# Altium footprint library WE-STST.PcbLib: 9 footprints
Each footprint in its own frame and in the unit in brackets; x right, y up, seen from the top. Pads: shape width x height; smd on the part's side, far side on the other; paste and mask are expansions set on the pad; w line width, h text height; cw(c..) or ccw(c..) is an arc to the next point about the centre after c.
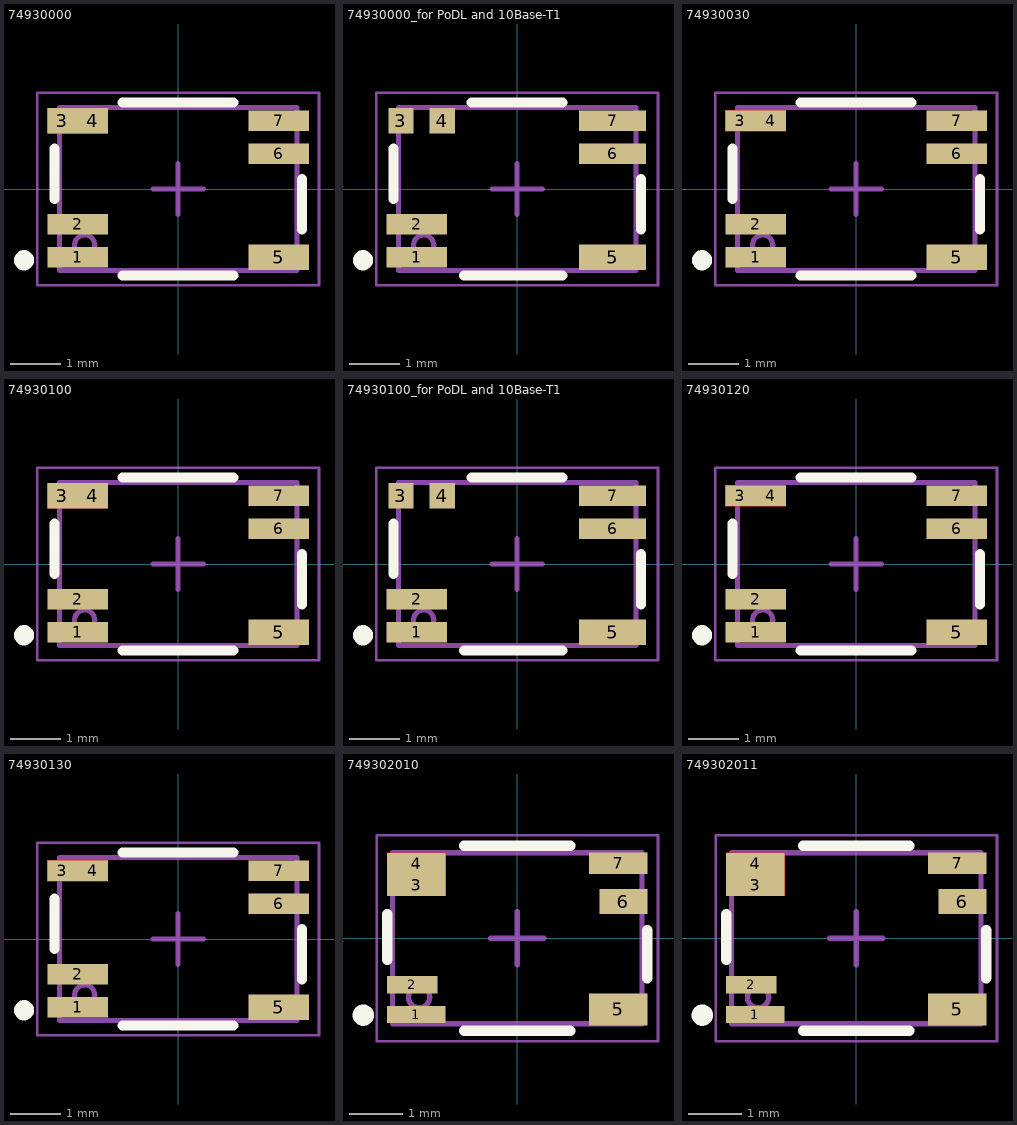
[diagram p0: the footprints below, top view; thin cyan lines are the x and y axes]

## 74930000 [mm] "Super Tiny Signal Transformer, body 4.7x3.22mm"
height 2.9
pads (7):
  rect 1.2x0.41 smd paste-2539.97: 1(-1.99,-1.35) 2(-1.99,-0.7) 6(1.99,0.7) 7(1.99,1.35)
  rect 0.6x0.5 smd paste-2539.97: 3(-2.29,1.35) 4(-1.69,1.35)
  rect 1.2x0.5 smd paste-2539.97: 5(1.99,-1.35)
Top Layer:
  region: -1.39,1.6 -2.59,1.6 -2.59,1.1 -1.39,1.1
Top Overlay:
  circle w0.2: c-3.05,-1.41 r0.1
  lines w0.2: -2.45,-0.2 -2.45,0.8 ; -1.1,-1.71 1.1,-1.71 ; -1.1,1.71 1.1,1.71 ; 2.45,-0.8 2.45,0.2
Top Paste:
  region: -2.59,1.6 -1.39,1.6 -1.39,1.1 -2.59,1.1
  region: -2.59,-0.395 -1.39,-0.395 -1.39,-0.805 -2.59,-0.805
  region: -2.59,-1.245 -1.39,-1.245 -1.39,-1.655 -2.59,-1.655
  region: 2.59,0.395 1.39,0.395 1.39,0.805 2.59,0.805
  region: 2.59,1.245 1.39,1.245 1.39,1.655 2.59,1.655
  region: 2.59,-1.6 1.39,-1.6 1.39,-1.1 2.59,-1.1
Top Assembly:
  circle w0.1: c-1.85,-1.11 r0.2
  lines w0.1: -2.35,-1.61 2.35,-1.61 2.35,1.61 -2.35,1.61 -2.35,-1.61
Top Designator:
  text ".Designator" at -3.647,-0.357 h1
Top Courtyard:
  lines w0.05: -2.79,-1.91 2.79,-1.91 2.79,1.91 -2.79,1.91 -2.79,-1.91
Top Component Center:
  lines w0.1: -0.5,0 0.5,0 ; 0,-0.5 0,0.5
3D body "74930000.stp": height 2.83, standoff 0, extent -2.35,-1.61 2.35,1.61

## 74930000_for PoDL and 10Base-T1 [mm] "Super Tiny Signal Transformer, body 4.7x3.22mm"
height 2.9
pads (7):
  rect 1.2x0.41 smd paste-2539.97: 1(-1.99,-1.35) 2(-1.99,-0.7)
  rect 0.5x0.5 smd: 3(-2.3,1.35) 4(-1.48,1.35)
  rect 1.32x0.5 smd paste+0: 5(1.89,-1.35)
  rect 1.32x0.41 smd paste-2539.97: 6(1.89,0.7) 7(1.89,1.35)
Top Overlay:
  circle w0.2: c-3.05,-1.41 r0.1
  lines w0.2: -2.45,-0.2 -2.45,0.8 ; -1.05,-1.71 0.9,-1.71 ; -0.9,1.71 0.9,1.71 ; 2.45,-0.8 2.45,0.2
Top Paste:
  region: -2.59,-0.395 -1.39,-0.395 -1.39,-0.805 -2.59,-0.805
  region: -2.59,-1.245 -1.39,-1.245 -1.39,-1.655 -2.59,-1.655
  region: 2.55,0.395 1.23,0.395 1.23,0.805 2.55,0.805
  region: 2.55,1.245 1.23,1.245 1.23,1.655 2.55,1.655
Top Assembly:
  circle w0.1: c-1.85,-1.11 r0.2
  lines w0.1: -2.35,-1.61 2.35,-1.61 2.35,1.61 -2.35,1.61 -2.35,-1.61
Top Designator:
  text ".Designator" at -3.647,-0.357 h1
Top Courtyard:
  lines w0.05: -2.79,-1.91 2.79,-1.91 2.79,1.91 -2.79,1.91 -2.79,-1.91
Top Component Center:
  lines w0.1: -0.5,0 0.5,0 ; 0,-0.5 0,0.5
3D body "74930000.stp": height 2.83, standoff 0, extent -2.35,-1.61 2.35,1.61

## 74930030 [mm] "Super Tiny Signal Transformer, body 4.7x3.22mm"
height 2.9
pads (7):
  rect 1.2x0.41 smd: 1(-1.99,-1.35) 2(-1.99,-0.7) 6(1.99,0.7) 7(1.99,1.35)
  rect 0.6x0.41 smd: 3(-2.29,1.35) 4(-1.69,1.35)
  rect 1.2x0.5 smd: 5(1.99,-1.35)
Top Layer:
  region: -1.39,1.555 -2.59,1.555 -2.59,1.145 -1.39,1.145
Top Overlay:
  circle w0.2: c-3.05,-1.41 r0.1
  lines w0.2: -2.45,-0.2 -2.45,0.8 ; -1.1,-1.71 1.1,-1.71 ; -1.1,1.71 1.1,1.71 ; 2.45,-0.8 2.45,0.2
Top Assembly:
  circle w0.1: c-1.85,-1.11 r0.2
  lines w0.1: -2.35,-1.61 2.35,-1.61 2.35,1.61 -2.35,1.61 -2.35,-1.61
Top Designator:
  text ".Designator" at -3.647,-0.357 h1
Top Courtyard:
  lines w0.05: -2.79,-1.91 2.79,-1.91 2.79,1.91 -2.79,1.91 -2.79,-1.91
Top Component Center:
  lines w0.1: -0.5,0 0.5,0 ; 0,-0.5 0,0.5
3D body "74930000.stp": height 2.83, standoff 0, extent -2.35,-1.61 2.35,1.61

## 74930100 [mm] "Super Tiny Signal Transformer, body 4.7x3.22mm"
height 2.9
pads (7):
  rect 1.2x0.41 smd paste-2539.97: 1(-1.99,-1.35) 2(-1.99,-0.7) 6(1.99,0.7) 7(1.99,1.35)
  rect 0.6x0.5 smd paste-2539.97: 3(-2.29,1.35) 4(-1.69,1.35)
  rect 1.2x0.5 smd paste-2539.97: 5(1.99,-1.35)
Top Layer:
  region: -1.39,1.6 -2.59,1.6 -2.59,1.1 -1.39,1.1
Top Overlay:
  circle w0.2: c-3.05,-1.41 r0.1
  lines w0.2: -2.45,-0.2 -2.45,0.8 ; -1.1,-1.71 1.1,-1.71 ; -1.1,1.71 1.1,1.71 ; 2.45,-0.8 2.45,0.2
Top Paste:
  region: 2.59,-1.6 1.39,-1.6 1.39,-1.1 2.59,-1.1
  region: 2.59,1.245 1.39,1.245 1.39,1.655 2.59,1.655
  region: 2.59,0.395 1.39,0.395 1.39,0.805 2.59,0.805
  region: -2.59,-1.245 -1.39,-1.245 -1.39,-1.655 -2.59,-1.655
  region: -2.59,-0.395 -1.39,-0.395 -1.39,-0.805 -2.59,-0.805
  region: -2.59,1.6 -1.39,1.6 -1.39,1.1 -2.59,1.1
Top Assembly:
  circle w0.1: c-1.85,-1.11 r0.2
  lines w0.1: -2.35,-1.61 -2.35,1.61 2.35,1.61 2.35,-1.61 -2.35,-1.61
Top Designator:
  text ".Designator" at -3.647,-0.357 h1
Top Courtyard:
  lines w0.05: -2.79,-1.91 -2.79,1.91 2.79,1.91 2.79,-1.91 -2.79,-1.91
Top Component Center:
  lines w0.1: -0.5,0 0.5,0 ; 0,-0.5 0,0.5
3D body "74930000.stp": height 2.83, standoff 0, extent -2.35,-1.61 2.35,1.61

## 74930100_for PoDL and 10Base-T1 [mm] "Super Tiny Signal Transformer, body 4.7x3.22mm"
height 2.9
pads (7):
  rect 1.2x0.41 smd paste-2539.97: 1(-1.99,-1.35) 2(-1.99,-0.7)
  rect 0.5x0.5 smd: 3(-2.3,1.35) 4(-1.48,1.35)
  rect 1.32x0.5 smd paste+0: 5(1.89,-1.35)
  rect 1.32x0.41 smd paste-2539.97: 6(1.89,0.7) 7(1.89,1.35)
Top Overlay:
  circle w0.2: c-3.05,-1.41 r0.1
  lines w0.2: -2.45,-0.2 -2.45,0.8 ; -1.05,-1.71 0.9,-1.71 ; -0.9,1.71 0.9,1.71 ; 2.45,-0.8 2.45,0.2
Top Paste:
  region: -2.59,-0.395 -1.39,-0.395 -1.39,-0.805 -2.59,-0.805
  region: -2.59,-1.245 -1.39,-1.245 -1.39,-1.655 -2.59,-1.655
  region: 2.55,0.395 1.23,0.395 1.23,0.805 2.55,0.805
  region: 2.55,1.245 1.23,1.245 1.23,1.655 2.55,1.655
Top Assembly:
  circle w0.1: c-1.85,-1.11 r0.2
  lines w0.1: -2.35,-1.61 2.35,-1.61 2.35,1.61 -2.35,1.61 -2.35,-1.61
Top Designator:
  text ".Designator" at -3.647,-0.357 h1
Top Courtyard:
  lines w0.05: -2.79,-1.91 2.79,-1.91 2.79,1.91 -2.79,1.91 -2.79,-1.91
Top Component Center:
  lines w0.1: -0.5,0 0.5,0 ; 0,-0.5 0,0.5
3D body "74930000.stp": height 2.83, standoff 0, extent -2.35,-1.61 2.35,1.61

## 74930120 [mm] "Super Tiny Signal Transformer, body 4.7x3.22mm"
height 2.9
pads (7):
  rect 1.2x0.41 smd: 1(-1.99,-1.35) 2(-1.99,-0.7) 6(1.99,0.7) 7(1.99,1.35)
  rect 0.6x0.41 smd: 3(-2.29,1.35) 4(-1.69,1.35)
  rect 1.2x0.5 smd: 5(1.99,-1.35)
Top Layer:
  region: -1.39,1.555 -2.59,1.555 -2.59,1.145 -1.39,1.145
Top Overlay:
  circle w0.2: c-3.05,-1.41 r0.1
  lines w0.2: -2.45,-0.2 -2.45,0.8 ; -1.1,-1.71 1.1,-1.71 ; -1.1,1.71 1.1,1.71 ; 2.45,-0.8 2.45,0.2
Top Assembly:
  circle w0.1: c-1.85,-1.11 r0.2
  lines w0.1: -2.35,-1.61 -2.35,1.61 2.35,1.61 2.35,-1.61 -2.35,-1.61
Top Designator:
  text ".Designator" at -3.647,-0.357 h1
Top Courtyard:
  lines w0.05: -2.79,-1.91 -2.79,1.91 2.79,1.91 2.79,-1.91 -2.79,-1.91
Top Component Center:
  lines w0.1: -0.5,0 0.5,0 ; 0,-0.5 0,0.5
3D body "74930000.stp": height 2.83, standoff 0, extent -2.35,-1.61 2.35,1.61

## 74930130 [mm] "Super Tiny Signal Transformer, body 4.7x3.22mm"
height 2.9
pads (7):
  rect 1.2x0.41 smd: 1(-1.99,-1.35) 2(-1.99,-0.7) 6(1.99,0.7) 7(1.99,1.35)
  rect 0.6x0.41 smd: 3(-2.29,1.35) 4(-1.69,1.35)
  rect 1.2x0.5 smd: 5(1.99,-1.35)
Top Layer:
  region: -1.39,1.555 -2.59,1.555 -2.59,1.145 -1.39,1.145
Top Overlay:
  circle w0.2: c-3.05,-1.41 r0.1
  lines w0.2: -2.45,-0.2 -2.45,0.8 ; -1.1,-1.71 1.1,-1.71 ; -1.1,1.71 1.1,1.71 ; 2.45,-0.8 2.45,0.2
Top Assembly:
  circle w0.1: c-1.85,-1.11 r0.2
  lines w0.1: -2.35,-1.61 2.35,-1.61 2.35,1.61 -2.35,1.61 -2.35,-1.61
Top Designator:
  text ".Designator" at -3.647,-0.357 h1
Top Courtyard:
  lines w0.05: -2.79,-1.91 2.79,-1.91 2.79,1.91 -2.79,1.91 -2.79,-1.91
Top Component Center:
  lines w0.1: -0.5,0 0.5,0 ; 0,-0.5 0,0.5
3D body "74930000.stp": height 2.83, standoff 0, extent -2.35,-1.61 2.35,1.61

## 749302010 [mm] "Super Tiny Signal Transformer, body 4.7x3.22mm"
height 2.9
pads (7):
  rect 1.1x0.32 smd: 1(-1.9,-1.44)
  rect 0.95x0.33 smd: 2(-1.98,-0.88)
  rect 1.1x0.405 smd: 3(-1.9,0.998) 4(-1.9,1.403)
  rect 1.1x0.6 smd: 5(1.9,-1.34)
  rect 0.9x0.47 smd: 6(2,0.69)
  rect 1.1x0.4 smd: 7(1.9,1.41)
Top Layer:
  region: -1.35,1.605 -2.45,1.605 -2.45,0.795 -1.35,0.795
Top Overlay:
  circle w0.2: c-2.9,-1.45 r0.1
  lines w0.2: -2.45,-0.4 -2.45,0.45 ; -1,-1.741 1,-1.741 ; -1,1.741 1,1.741 ; 2.45,-0.75 2.45,0.15
Top Assembly:
  circle w0.1: c-1.85,-1.11 r0.2
  lines w0.1: -2.35,-1.61 2.35,-1.61 2.35,1.61 -2.35,1.61 -2.35,-1.61
Top Designator:
  text ".Designator" at -3.647,-0.357 h1
Top Courtyard:
  lines w0.05: -2.65,-1.941 2.65,-1.941 2.65,1.941 -2.65,1.941 -2.65,-1.941
Top Component Center:
  lines w0.1: -0.5,0 0.5,0 ; 0,-0.5 0,0.5
3D body "STP_749302010 (rev1).stp": height 2.9, standoff 0, extent -2.35,-1.61 2.35,1.61

## 749302011 [mm] "Super Tiny Signal Transformer, body 4.7x3.22mm"
height 2.9
pads (7):
  rect 1.1x0.32 smd: 1(-1.9,-1.44)
  rect 0.95x0.33 smd: 2(-1.98,-0.88)
  rect 1.1x0.405 smd: 3(-1.9,0.998) 4(-1.9,1.403)
  rect 1.1x0.6 smd: 5(1.9,-1.34)
  rect 0.9x0.47 smd: 6(2,0.69)
  rect 1.1x0.4 smd: 7(1.9,1.41)
Top Layer:
  region: -1.35,1.605 -2.45,1.605 -2.45,0.795 -1.35,0.795
Top Overlay:
  circle w0.2: c-2.9,-1.45 r0.1
  lines w0.2: -2.45,-0.4 -2.45,0.45 ; -1,-1.741 1,-1.741 ; -1,1.741 1,1.741 ; 2.45,-0.75 2.45,0.15
Top Assembly:
  circle w0.1: c-1.85,-1.11 r0.2
  lines w0.1: -2.35,-1.61 2.35,-1.61 2.35,1.61 -2.35,1.61 -2.35,-1.61
Top Designator:
  text ".Designator" at -3.647,-0.357 h1
Top Courtyard:
  lines w0.05: -2.65,-1.941 2.65,-1.941 2.65,1.941 -2.65,1.941 -2.65,-1.941
Top Component Center:
  lines w0.1: -0.5,0 0.5,0 ; 0,-0.5 0,0.5
3D body "STP_749302011 (rev1).stp": height 2.9, standoff 0, extent -2.35,-1.61 2.35,1.61